# EAGLE library part TLE83862ELXUMA1 (library ruark2)
IC REG CTRLR BOOST 14-SSOP
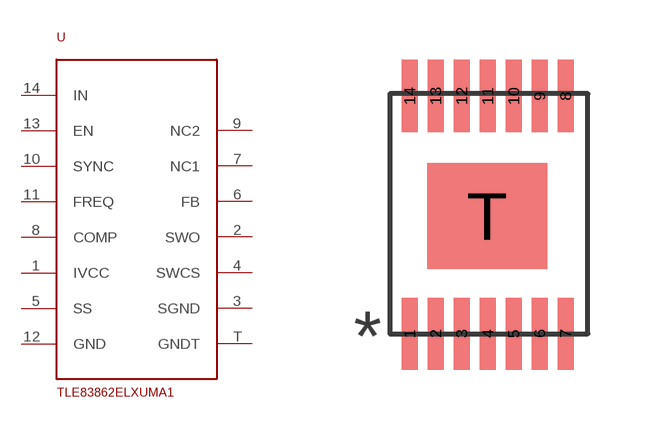
[diagram p53: symbol with the pads of PG-SSOP-14; footprint PG-SSOP-14]

Designator prefix U

## TLE83862ELXUMA1 (PARTNO: TLE83862ELXUMA1CT-ND)  [PG-SSOP-14]
1  IVCC
2  SWO
3  SGND
4  SWCS
5  SS
6  FB
7  NC1
8  COMP
9  NC2
10  SYNC
11  FREQ
12  GND
13  EN
14  IN
T  GNDT

## Footprint PG-SSOP-14 (pad centres in mm)
smd 0.4 x 1.8: 1 0,0.025; 2 0.65,0.025; 3 1.3,0.025; 4 1.95,0.025; 5 2.6,0.025; 6 3.25,0.025; 7 3.9,0.025; 8 3.9,5.975; 9 3.25,5.975; 10 2.6,5.975; 11 1.95,5.975; 12 1.3,5.975; 13 0.65,5.975; 14 0,5.975
smd 3 x 2.65: T 1.93,2.972